# Altium schematic symbol library ic-mcu.SchLib: 31 symbols (part 2 of 2)
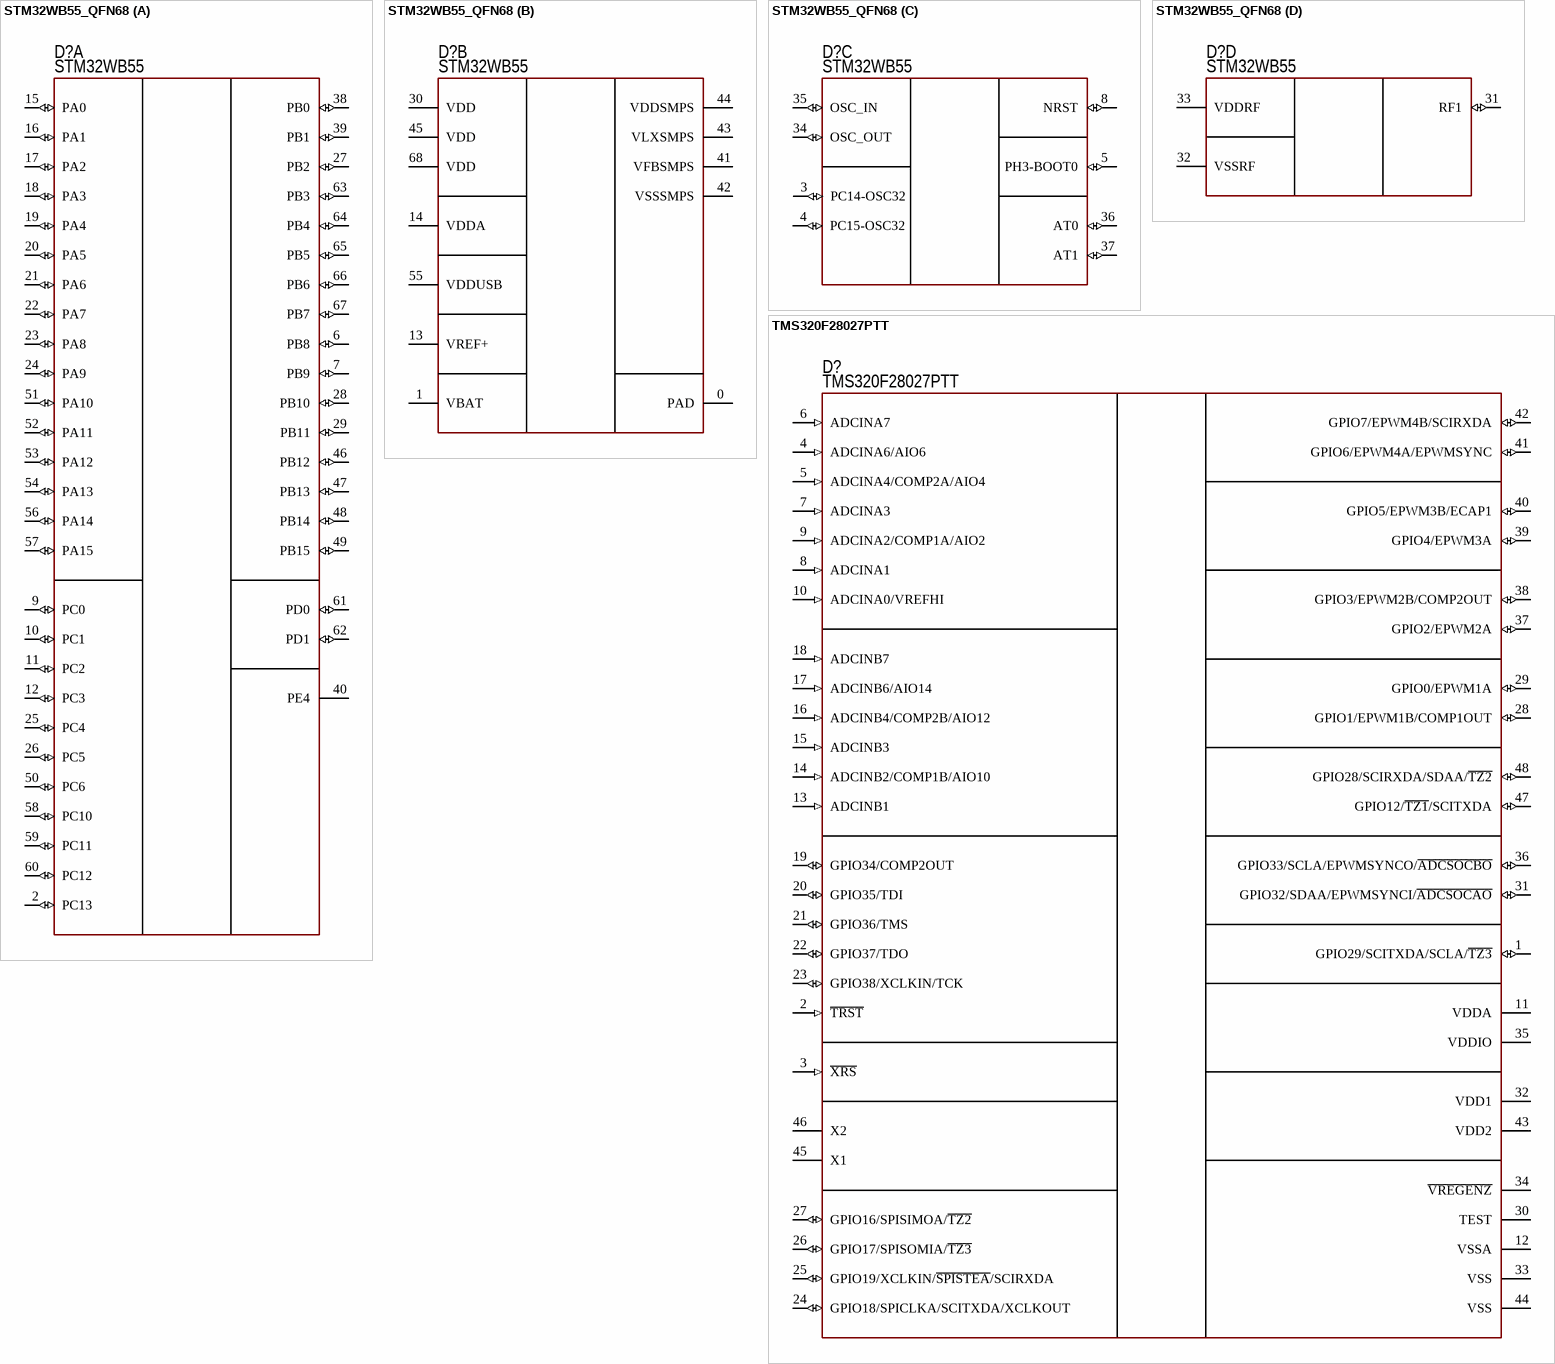
[diagram p13: symbols STM32WB55_QFN68 to TMS320F28027PTT]

## STM32WB55_QFN68
designator D?  PartNumber: STM32WB55
Cortex-M7; Manufacturer: STMicroelectronics; Supply: 1.7...3.6V; Speed: 72MHz; CoreSize: 32-Bit; CoreProcessor: Cortex-M0+M3; HelpURL: https://www.st.com/resource/en/user_manual/dm00517423-bluetooth-low-energy-and-802154-nucleo-pack-based-on-stm32wb-series-microcontrollers-stmicroelectronics.pdf; Package: QFN (68); ComponentType: IC microcontroller; ValueManufacturerPartNumber: =ComponentType+', '+CoreSize+', '+CoreProcessor+', '+Speed+', '+MemoryROM+', '+MemoryRAM+', '+Supply+', '+Temperature+', '+Package; Temperature: -40...+105°C
footprint 68-VFQFPN (pitch 0.4 mm, power pad)
part A pins: 2 PC13 (io), 6 PB8 (io), 7 PB9 (io), 9 PC0 (io), 10 PC1 (io), 11 PC2 (io), 12 PC3 (io), 15 PA0 (io), 16 PA1 (io), 17 PA2 (io), 18 PA3 (io), 19 PA4 (io), 20 PA5 (io), 21 PA6 (io), 22 PA7 (io), 23 PA8 (io), 24 PA9 (io), 25 PC4 (io), 26 PC5 (io), 27 PB2 (io), 28 PB10 (io), 29 PB11 (io), 38 PB0 (io), 39 PB1 (io), 40 PE4 (power), 46 PB12 (io), 47 PB13 (io), 48 PB14 (io), 49 PB15 (io), 50 PC6 (io), 51 PA10 (io), 52 PA11 (io), 53 PA12 (io), 54 PA13 (io), 56 PA14 (io), 57 PA15 (io), 58 PC10 (io), 59 PC11 (io), 60 PC12 (io), 61 PD0 (io), 62 PD1 (io), 63 PB3 (io), 64 PB4 (io), 65 PB5 (io), 66 PB6 (io), 67 PB7 (io)
part B pins: 0 PAD, 1 VBAT (power), 13 VREF+ (power), 14 VDDA (power), 30 VDD (power), 41 VFBSMPS (power), 42 VSSSMPS (power), 43 VLXSMPS (power), 44 VDDSMPS (power), 45 VDD (power), 55 VDDUSB (power), 68 VDD (power)
part C pins: 3 PC14-OSC32 (io), 4 PC15-OSC32 (io), 5 PH3-BOOT0 (io), 8 NRST (io), 34 OSC_OUT (io), 35 OSC_IN (io), 36 AT0 (io), 37 AT1 (io)
part D pins: 31 RF1 (io), 32 VSSRF (power), 33 VDDRF (power)

## TMS320F28027PTT
designator D?  PartNumber: TMS320F28027PTT
C28 Piccolo; Manufacturer: Texas Instruments; ValueManufacturerPartNumber: IC motor control, 32-Bit, C28 Piccolo, 60MHz, 64KB, 12KB, 1.71...3.6V, -40...+105°C, 48-LQFP; Supply: 1.71...3.6V; Speed: 60MHz; CoreSize: 32-Bit; MemoryROM: 64KB; MemoryRAM: 12KB; HelpURL: https://www.digikey.com/products/en?keywords=TMS320F28027PTT; Package: 48-LQFP; ComponentType: IC motor control; Temperature: -40...+105°C; CoreProcessor: C28 Piccolo
footprint 48-LQFP (QFP, 48-Leads, Body 7x7mm, Pitch 0.5mm, IPC Medium Density)
pins: 1 GPIO29/SCITXDA/SCLA/~{TZ3} (io), 2 ~{TRST} (in), 3 ~{XRS} (in), 4 ADCINA6/AIO6 (in), 5 ADCINA4/COMP2A/AIO4 (in), 6 ADCINA7 (in), 7 ADCINA3 (in), 8 ADCINA1 (in), 9 ADCINA2/COMP1A/AIO2 (in), 10 ADCINA0/VREFHI (in), 11 VDDA, 12 VSSA, 13 ADCINB1 (in), 14 ADCINB2/COMP1B/AIO10 (in), 15 ADCINB3 (in), 16 ADCINB4/COMP2B/AIO12 (in), 17 ADCINB6/AIO14 (in), 18 ADCINB7 (in), 19 GPIO34/COMP2OUT (io), 20 GPIO35/TDI (io), 21 GPIO36/TMS (io), 22 GPIO37/TDO (io), 23 GPIO38/XCLKIN/TCK (io), 24 GPIO18/SPICLKA/SCITXDA/XCLKOUT (io), 25 GPIO19/XCLKIN/~{SPISTEA}/SCIRXDA (io), 26 GPIO17/SPISOMIA/~{TZ3} (io), 27 GPIO16/SPISIMOA/~{TZ2} (io), 28 GPIO1/EPWM1B/COMP1OUT (io), 29 GPIO0/EPWM1A (io), 30 TEST, 31 GPIO32/SDAA/EPWMSYNCI/~{ADCSOCAO} (io), 32 VDD1, 33 VSS, 34 ~{VREGENZ}, 35 VDDIO, 36 GPIO33/SCLA/EPWMSYNCO/~{ADCSOCBO} (io), 37 GPIO2/EPWM2A (io), 38 GPIO3/EPWM2B/COMP2OUT (io), 39 GPIO4/EPWM3A (io), 40 GPIO5/EPWM3B/ECAP1 (io), 41 GPIO6/EPWM4A/EPWMSYNC (io), 42 GPIO7/EPWM4B/SCIRXDA (io), 43 VDD2, 44 VSS, 45 X1, 46 X2, 47 GPIO12/~{TZ1}/SCITXDA (io), 48 GPIO28/SCIRXDA/SDAA/~{TZ2} (io)